# Altium integrated library Infineon_Power_Supply_Voltage_Regulator.IntLib: 346 symbols (part 4 of 16)
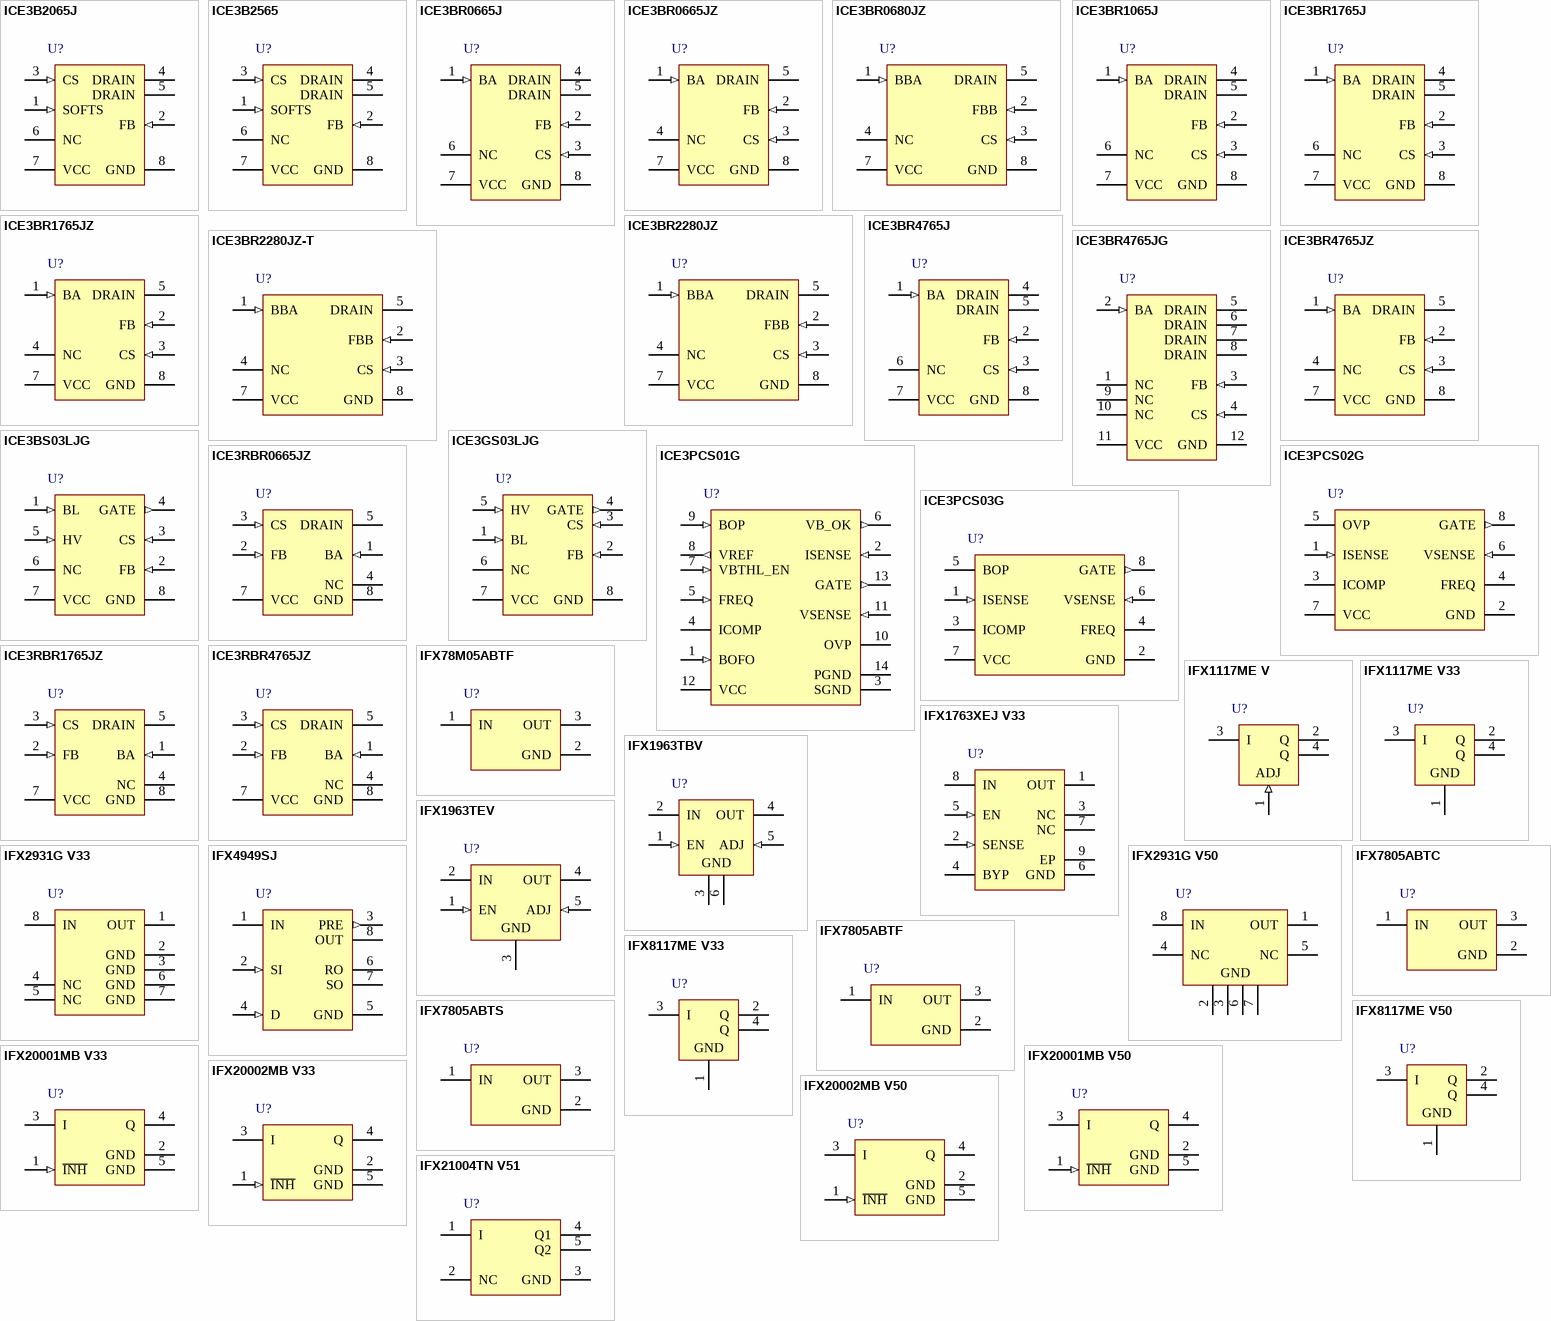
[diagram p12: symbols ICE3B2065J to IFX21004TN V51]

## ICE3BR1765J
designator U?
Off-Line SMPS Current Mode Controller with Integrated 650 V CoolMOS and Startup Cell (Frequency Jitter Mode), 10.5 to 25 V, -25 to 130 degC, PG-DIP-8, Tube, Green; Manufacturer: Infineon; PartNumber: ICE3BR1765J; ESD Protection (max): 2 kV; Frequency ( f ) Range: 65 kHz fixed; Green Product: Lead Free; ICC (typ): 2.7 mA; ID (max): 1.5 A; PIN (max): 31 W; RDS (on) (typ): 1.7 Ohm; RthJA (max): 90 K/W; tf (typ): 30 ns; VCC (max): 25 V; VCC (min): 10.5 V; VDS (max): 650 V; DatasheetVersion: Rev. 2.3; PackageVersion: Rev. 02, 05/2012; PackageReference: PG-DIP-8; PackageDescription: 8-Pin Plastic (Green) Dual In-Line Package, 9.44 x 6.35 mm Body, 2.54 mm Pitch; Supplier 1: Mouser; Supplier Part Number 1: 726-ICE3BR1765J; Supplier 2: Digi-Key; Supplier Part Number 2: ICE3BR1765J-ND; tr (typ): 30 ns; Mounting Technology: Through Hole; ComponentLink1Description: Manufacturer URL; ComponentLink1URL: http://www.infineon.com/; ComponentLink2Description: Datasheet; ComponentLink2URL: http://www.infineon.com/dgdl/Datasheet_ICE3BR1765J_v2_2_4Jul2011.pdf?folderId=db3a304412b407950112b408e8c90004&fileId=db3a30431a5c32f2011a7a6a5b73688b; ComponentLink3Description: Package Specification; ComponentLink3URL: http://www.infineon.com/dgdl/Datasheet_CoolSET-F3_v22_30Aug2011.pdf?folderId=db3a304412b407950112b4182a3d24f8&fileId=db3a304412b407950112b428f6ba3f30
footprint INF-PG-DIP-8_A (DIP, 8-Leads, Body 9.435x7.875mm, Pitch 2.54mm)
pins: 1 BA (in) "extended Blanking & Auto-restart", 2 FB (in) "FeedBack", 3 CS (in) "Current Sense/650V CoolMOS(R) Source", 4 DRAIN (power) "650V CoolMOS(R) Drain", 5 DRAIN (power) "650V CoolMOS(R) Drain", 6 NC "Not connected", 7 VCC (power) "Controller Supply Voltage", 8 GND (power) "Controller GrouND"

## ICE3BR1765JZ
designator U?
Off-Line SMPS Current Mode Controller with Integrated 650 V, 10.5 to 25 V, -25 to 130 degC, PG-DIP-7-1, Tube, Green; Manufacturer: Infineon; PartNumber: ICE3BR1765JZ; ESD Protection (max): 2 kV; Frequency ( f ) Range: 65 kHz; Green: TRUE; Green Product: Lead Free; ICC (typ): 2.7 mA; ID (max): 1.5 A; PIN (max): 29.5 W; RDS (on) (typ): 1.7 Ohm; RthJA (max): 96 K/W; tf (typ): 30 ns; VCC (max): 25 V; VCC (min): 10.5 V; VDS (max): 650 V; DatasheetVersion: Rev. 2.1; PackageVersion: Rev. 02, 07/2011; PackageReference: PG-DIP-7-1; PackageDescription: 7-Pin Plastic (Green) Dual In-Line Package, 9.44 x 6.35 mm Body, 2.54 mm Pitch; Supplier 1: Mouser; Supplier Part Number 1: 726-ICE3BR1765JZ; Supplier 2: Digi-Key; Supplier Part Number 2: ICE3BR1765JZ-ND; tr (typ): 30 ns; Mounting Technology: Through Hole; ComponentLink1Description: Manufacturer URL; ComponentLink1URL: http://www.infineon.com/; ComponentLink2Description: Datasheet; ComponentLink2URL: http://www.infineon.com/dgdl/Datasheet_ICE3BR1765JZ_V21_30Aug2011.pdf?folderId=db3a304412b407950112b4182a3d24f8&fileId=db3a3043243b5f170124ec0e3d1951a3; ComponentLink3Description: Package Specification; ComponentLink3URL: http://www.infineon.com/dgdl/Datasheet_ICE3BR0680JZ_V21a_11Jan2012.pdf?folderId=db3a30431f848401011fcbf221ff04c3&fileId=db3a304329a0f6ee0129e8b5bf735b64
footprint INF-PG-DIP-7-1_A (DIP, 7-Leads, Body 9.44x6.35mm, Pitch 2.54mm)
pins: 1 BA (in) "Brownout, extended Blanking time & Auto-restart enable", 2 FB (in) "Feedback & Burst entry/exit control", 3 CS (in) "Current Sense/ xxxV CoolMOS(R) Source", 4 NC "not connected", 5 DRAIN (power) "xxxV CoolMOS(R) Drain", 7 VCC (power) "Controller Supply Voltage", 8 GND (power) "Controller Ground"

## ICE3BR2280JZ
designator U?
Off-Line SMPS Current Mode Controller with Integrated 800 V CoolMOS and Startup Cell (Brownout & Frequency Jitter), 10.5 to 25 V, -25 to 130 degC, PG-DIP-7-1, Tube, Green; Manufacturer: Infineon; PartNumber: ICE3BR2280JZ; ESD Protection (max): 2 kV; Frequency ( f ) Range: 65 kHz (fixed); Green: TRUE; Green Product: Lead Free; ICC (typ): 3.1 mA; ID (max): 1.5 A; PIN (max): 28 W; RDS (on) (typ): 2.26 Ohm; RthJA (max): 96 K/W; tf (typ): 30 ns; VCC (max): 25 V; VCC (min): 10.5 V; VDS (max): 800 V; DatasheetVersion: Rev. 2.1a; PackageVersion: Rev. 02, 07/2011; PackageReference: PG-DIP-7-1; PackageDescription: 7-Pin Plastic (Green) Dual In-Line Package, 9.44 x 6.35 mm Body, 2.54 mm Pitch; Supplier 1: Mouser; Supplier Part Number 1: 726-ICE3BR2280JZ; Halogen-free: TRUE; tr (typ): 30 ns; Mounting Technology: Through Hole; ComponentLink1Description: Manufacturer URL; ComponentLink1URL: http://www.infineon.com/; ComponentLink2Description: Datasheet; ComponentLink2URL: http://www.infineon.com/dgdl/Datasheet_ICE3BR2280JZ_V21a_11Jan2012.pdf?folderId=db3a30431f848401011fcbf221ff04c3&fileId=db3a304329a0f6ee0129e8b374bc5b5f; ComponentLink3Description: Package Specification; ComponentLink3URL: http://www.infineon.com/dgdl/Datasheet_ICE3BR0680JZ_V21a_11Jan2012.pdf?folderId=db3a30431f848401011fcbf221ff04c3&fileId=db3a304329a0f6ee0129e8b5bf735b64
footprint INF-PG-DIP-7-1_A (DIP, 7-Leads, Body 9.44x6.35mm, Pitch 2.54mm)
pins: 1 BBA (in) "Brownout, extended Blanking time & Auto-restart enable", 2 FBB (in) "Feedback & Burst entry/exit control", 3 CS (in) "Current Sense/800V CoolMOS(R) Source", 4 NC "not connected", 5 DRAIN (power) "800V CoolMOS(R) Drain", 7 VCC (power) "Controller Supply Voltage", 8 GND (power) "Controller Ground"

## ICE3BR2280JZ-T
designator U?
Off-Line SMPS Current Mode Controller, -40 to 130 degC, PG-DIP-7-1, Tube, Green; Manufacturer: Infineon; PartNumber: ICE3BR2280JZ-T; Green: TRUE; ID (max): 1.5 A; PIN (max): 28 W; RDS (on) (typ): 2.26 Ohm; VCC (max): 25 V; VCC (min): 10.5 V; VDS (max): 800 V; DatasheetVersion: Rev. 2.0; PackageVersion: Rev. 02, 07/2011; PackageReference: PG-DIP-7-1; PackageDescription: 7-Pin Plastic (Green) Dual In-Line Package, 9.44 x 6.35 mm Body, 2.54 mm Pitch; Supplier 1: Mouser; Supplier Part Number 1: N/A; Halogen-free: TRUE; Packing: Tube; Mounting Technology: Through Hole; ComponentLink1Description: Manufacturer URL; ComponentLink1URL: http://www.infineon.com/; ComponentLink2Description: Datasheet; ComponentLink2URL: http://www.infineon.com/dgdl/Datasheet_ICE3BR2280JZ-T_V2.0_20Mar2013.pdf?folderId=db3a30433dd36866013dd41eec4723fc&fileId=db3a30433dd42dcf013dd4fe627601e4; ComponentLink3Description: Package Specification; ComponentLink3URL: http://www.infineon.com/dgdl/Datasheet_ICE3BR0680JZ_V21a_11Jan2012.pdf?folderId=db3a30431f848401011fcbf221ff04c3&fileId=db3a304329a0f6ee0129e8b5bf735b64
footprint INF-PG-DIP-7-1_A (DIP, 7-Leads, Body 9.44x6.35mm, Pitch 2.54mm)
pins: 1 BBA (in) "Brownout, extended Blanking time & Auto-restart enable", 2 FBB (in) "Feedback & Burst entry/exit control", 3 CS (in) "Current Sense/800V CoolMOS(R) Source", 4 NC "not connected", 5 DRAIN (power) "800V CoolMOS(R) Drain", 7 VCC (power) "Controller Supply Voltage", 8 GND (power) "Controller Ground"

## ICE3BR4765J
designator U?
Off-Line SMPS Current Mode Controller with Integrated 650 V CoolMOS and Startup Cell (Frequency Jitter Mode), 10.5 to 25 V, -25 to 130 degC, PG-DIP-8, Green; Manufacturer: Infineon; PartNumber: ICE3BR4765J; ESD Protection (max): 2 kV; Frequency ( f ) Range: 65 kHz fixed; Green: TRUE; Green Product: Lead Free; ICC (typ): 2.5 mA; ID (max): 0.5 A; PIN (max): 18 W; RDS (on) (typ): 4.7 Ohm; RthJA (max): 90 K/W; tf (typ): 30 ns; VCC (max): 25 V; VCC (min): 10.5 V; VDS (max): 650 V; DatasheetVersion: Rev. 2.5; PackageVersion: Rev. 02, 05/2012; PackageReference: PG-DIP-8; PackageDescription: 8-Pin Plastic (Green) Dual In-Line Package, 9.44 x 6.35 mm Body, 2.54 mm Pitch; Supplier 1: Mouser; Supplier Part Number 1: 726-ICE3BR4765J; Supplier 2: Digi-Key; Supplier Part Number 2: ICE3BR4765J-ND; tr (typ): 30 ns; Mounting Technology: Through Hole; ComponentLink1Description: Manufacturer URL; ComponentLink1URL: http://www.infineon.com/; ComponentLink2Description: Datasheet; ComponentLink2URL: http://www.infineon.com/dgdl/Datasheet_ICE3BR4765J_v2_4_4Jul2011.pdf?folderId=db3a3043156fd5730115da1adffb1528&fileId=db3a3043156fd5730115da40851e152a; ComponentLink3Description: Package Specification; ComponentLink3URL: http://www.infineon.com/dgdl/Datasheet_CoolSET-F3_v22_30Aug2011.pdf?folderId=db3a304412b407950112b4182a3d24f8&fileId=db3a304412b407950112b428f6ba3f30
footprint INF-PG-DIP-8_A (DIP, 8-Leads, Body 9.435x7.875mm, Pitch 2.54mm)
pins: 1 BA (in) "extended Blanking & Auto-restart", 2 FB (in) "FeedBack", 3 CS (in) "Current Sense/650V CoolMOS(R) Source", 4 DRAIN (power) "650V CoolMOS(R) Drain", 5 DRAIN (power) "650V CoolMOS(R) Drain", 6 NC "Not connected", 7 VCC (power) "Controller Supply Voltage", 8 GND (power) "Controller GrouND"

## ICE3BR4765JG
designator U?
Off-Line SMPS Current Mode Controller with Integrated 650 V CoolMOS and Startup Cell (Frequency Jitter Mode), 10.5 to 25 V, -25 to 130 degC, PG-DSO-16/12, Green; Manufacturer: Infineon; PartNumber: ICE3BR4765JG; ESD Protection (max): 2 kV; Frequency ( f ) Range: 65 khZ fixed; Green: TRUE; Green Product: Lead Free; ICC (typ): 2.5 mA; ID (max): 0.5 A; PIN (max): 16.5 W; RDS (on) (typ): 4.7 Ohm; RthJA (max): 110 K/W; tf (typ): 30 ns; VCC (max): 25 V; VCC (min): 10.5 V; VDS (max): 650 V; DatasheetVersion: Rev. 2.0; PackageReference: PG-DSO-16_12; PackageDescription: 16-Pin Plastic (Green) Dual Small Outline Package, 9.9 x 3.9 mm Body, 1.27 mm Pitch; Supplier 1: Mouser; Supplier Part Number 1: 726-ICE3BR4765JG; tr (typ): 30 ns; Mounting Technology: Surface Mount; ComponentLink1Description: Manufacturer URL; ComponentLink1URL: http://www.infineon.com/; ComponentLink2Description: Datasheet; ComponentLink2URL: http://www.infineon.com/dgdl/Datasheet_ICE3BR4765JG_v20_18Feb10.pdf?folderId=db3a304412b407950112b4182a0e24f7&fileId=db3a304327b897500127cc8423b820f0; ComponentLink3Description: Package Specification; ComponentLink3URL: http://www.infineon.com/dgdl/Datasheet_ICE2QR0665G_20110704_R20.pdf?folderId=db3a304412b407950112b408e8c90004&fileId=db3a304330f686060130fd2a8e477ecb
footprint INF-PG-DSO-16_12_N (SOP, 16-Leads, Body 9.9x3.9mm, Pitch 1.27mm, IPC Medium Density)
footprint INF-PG-DSO-16_12_L (SOP, 16-Leads, Body 9.9x3.9mm, Pitch 1.27mm, IPC High Density)
footprint INF-PG-DSO-16_12_M (SOP, 16-Leads, Body 9.9x3.9mm, Pitch 1.27mm, IPC Low Density)
pins: 1 NC "Not Connected", 2 BA (in) "extended Blanking & Auto-restart", 3 FB (in) "Feedback", 4 CS (in) "Current Sense/650V Depl. CoolMOS(R) Source", 5 DRAIN (power) "650V Depl. CoolMOS(R) Drain", 6 DRAIN (power) "650V Depl. CoolMOS(R) Drain", 7 DRAIN (power) "650V Depl. CoolMOS(R) Drain", 8 DRAIN (power) "650V Depl. CoolMOS(R) Drain", 9 NC "Not Connected", 10 NC "Not Connected", 11 VCC (power) "Controller Supply Voltage", 12 GND (power) "Controller Ground"

## ICE3BR4765JZ
designator U?
Off-Line SMPS Current Mode Controller with Integrated 650 V CoolMOS and Startup Cell, 10.5 to 25 V, -25 to 130 degC, PG-DIP-7-1, Tube, Green; Manufacturer: Infineon; PartNumber: ICE3BR4765JZ; ESD Protection (max): 2 kV; Frequency ( f ) Range: 65 kHz fixed; Green: TRUE; Green Product: Lead Free; ICC (typ): 2.5 mA; ID (max): 0.5 A; PIN (max): 18 W; RDS (on) (typ): 4.7 Ohm; RthJA (max): 96 K/W; tf (typ): 30 ns; VCC (max): 25 V; VCC (min): 10.5 V; VDS (max): 650 V; DatasheetVersion: Rev. 2.1; PackageVersion: Rev. 02, 07/2011; PackageReference: PG-DIP-7-1; PackageDescription: 7-Pin Plastic (Green) Dual In-Line Package, 9.44 x 6.35 mm Body, 2.54 mm Pitch; Supplier 1: Mouser; Supplier Part Number 1: 726-ICE3BR4765JZ; Halogen-free: TRUE; tr (typ): 30 ns; Mounting Technology: Through Hole; ComponentLink1Description: Manufacturer URL; ComponentLink1URL: http://www.infineon.com/; ComponentLink2Description: Datasheet; ComponentLink2URL: http://www.infineon.com/dgdl/Datasheet_ICE3BR4765JZ_V21_30Aug2011.pdf?folderId=db3a30431f848401011fcbf221ff04c3&fileId=db3a3043294a35580129586fb3647c30; ComponentLink3Description: Package Specification; ComponentLink3URL: http://www.infineon.com/dgdl/Datasheet_ICE3BR0680JZ_V21a_11Jan2012.pdf?folderId=db3a30431f848401011fcbf221ff04c3&fileId=db3a304329a0f6ee0129e8b5bf735b64
footprint INF-PG-DIP-7-1_A (DIP, 7-Leads, Body 9.44x6.35mm, Pitch 2.54mm)
pins: 1 BA (in) "Brownout, extended Blanking time & Auto-restart enable", 2 FB (in) "Feedback & Burst entry/exit control", 3 CS (in) "Current Sense/ xxxV CoolMOS(R) Source", 4 NC "not connected", 5 DRAIN (power) "xxxV CoolMOS(R) Drain", 7 VCC (power) "Controller Supply Voltage", 8 GND (power) "Controller Ground"

## ICE3BS03LJG
designator U?
Off-Line SMPS Current Mode Controller, -25 to 130 degC, PG-DSO-8; Manufacturer: Infineon; PartNumber: ICE3BS03LJG; Green: FALSE; ICC (max): 2.5 mA; Output: MOSFET Gate Driver; VCC (max): 26 V; VCC (min): 10.5 V; DatasheetVersion: Rev. 2.0; PackageReference: PG-DSO-8_B; PackageDescription: 8-Pin Plastic (Green) Dual Small Outline Package, 4.91 x 3.96 mm Body, 1.27 mm Pitch; Supplier 1: Mouser; Supplier Part Number 1: 726-ICE3BS03LJG; Supplier 2: Digi-Key; Supplier Part Number 2: ICE3BS03LJG-ND; Halogen-free: FALSE; Mounting Technology: Surface Mount; ComponentLink1Description: Manufacturer URL; ComponentLink1URL: http://www.infineon.com/; ComponentLink2Description: Datasheet; ComponentLink2URL: http://www.infineon.com/dgdl/Datasheet_ICE3BS03LJG_6Dec07-V2_0+.pdf?folderId=db3a3043156fd5730115da1adffb1528&fileId=db3a30431689f4420116b2b751ff05b0; ComponentLink3Description: Package Specification; ComponentLink3URL: http://www.infineon.com/dgdl/Datasheet_ICE1HS01G_v2.0_20090824.pdf?folderId=db3a3043156fd5730115da1adffb1528&fileId=db3a304327b8975001281ab6d8201a99
footprint INF-PG-DSO-8_B_N (SOP, 8-Leads, Body 4.91x3.96mm, Pitch 1.27mm, IPC Medium Density)
footprint INF-PG-DSO-8_B_L (SOP, 8-Leads, Body 4.91x3.96mm, Pitch 1.27mm, IPC High Density)
footprint INF-PG-DSO-8_B_M (SOP, 8-Leads, Body 4.91x3.96mm, Pitch 1.27mm, IPC Low Density)
pins: 1 BL (in) "extended Blanking and Latch off enable", 2 FB (in) "Feedback", 3 CS (in) "Current Sense", 4 GATE (out) "Gate driver output", 5 HV (in) "High Voltage input", 6 NC "Not Connected", 7 VCC (power) "Controller Supply Voltage", 8 GND (power) "Controller Ground"

## ICE3GS03LJG
designator U?
Standalone Power Factor Correction (PFC) Controller in Continuous Conduction Mode (CCM), 10.5 to 25 V, -25 to 130 degC, PG-DSO-8, Reel, Green; Manufacturer: Infineon; PartNumber: ICE3GS03LJG; Frequency ( f ) Range: 130KHz (fixed); Green: TRUE; Group: DSO-8; ICC (max): 2.5 mA; IGATE(max): 0.39 A; IGATE(min): -0.17 A; Iq (typ): 150 uA; Output: MOSFET Gate Driver; VCC (max): 25 V; VCC (min): 10.5 V; DatasheetVersion: Rev. 1.2; PackageVersion: Rev. 02, 01/2008; PackageReference: PG-DSO-8_A; PackageDescription: 8-Pin Plastic (Green) Dual Small Outline Package, 4.9 x 3.9 mm Body, 1.27 mm Pitch; Supplier 1: Mouser; Supplier Part Number 1: 726-ICE3GS03LJG; Halogen-free: available; Mounting Technology: Surface Mount; ComponentLink1Description: Manufacturer URL; ComponentLink1URL: http://www.infineon.com/; ComponentLink2Description: Datasheet; ComponentLink2URL: http://www.infineon.com/dgdl/ProductDatasheetICE2PCS05+22Mar2010.pdf?folderId=db3a304412b407950112b4182a3d24f8&fileId=db3a30431c69a49d011cdfb46a834373; ComponentLink3Description: Package Specification; ComponentLink3URL: http://www.infineon.com/dgdl/ProductDatasheetICE2PCS05+22Mar2010.pdf?folderId=db3a304412b407950112b4182a3d24f8&fileId=db3a30431c69a49d011cdfb46a834373
footprint INF-PG-DSO-8_A_N (SOP, 8-Leads, Body 4.9x3.9mm, Pitch 1.27mm, IPC Medium Density, IPC Medium Density)
footprint INF-PG-DSO-8_A_L (SOP, 8-Leads, Body 4.9x3.9mm, Pitch 1.27mm, IPC Medium Density, IPC High Density)
footprint INF-PG-DSO-8_A_M (SOP, 8-Leads, Body 4.9x3.9mm, Pitch 1.27mm, IPC Medium Density, IPC Low Density)
pins: 1 BL (in) "extended Blanking and Latch off enable", 2 FB (in) "Feedback", 3 CS (in) "Current Sense", 4 GATE (out) "Gate driver output", 5 HV (in) "High Voltage input", 6 NC "Not Connected", 7 VCC (power) "Controller Supply Voltage", 8 GND (power) "Controller Ground"

## ICE3PCS01G
designator U?
Standalone Power Factor Correction (PFC) Controller in Continuous Conduction Mode (CCM), 11 to 25 V, -25 to 125 degC, PG-DSO-14-3, Reel, Green; Part Number: ICE3PCS01G; Manufacturer: Infineon; Frequency ( f ) Range: 21kHz - 250kHz; Green: TRUE; ICC (max): 9 mA; Iq (typ): 380 uA; Output: MOSFET Gate Driver; VCC (max): 25 V; VCC (min): 11 V; DatasheetVersion: Rev. 2.0; PackageVersion: May-10; PackageReference: PG-DSO-14-3; PackageDescription: 14-Pin Plastic (Green) Dual Small Outline Package, 8.65 x 3.9 mm Body, 1.27 mm Pitch; Supplier 1: Mouser; Supplier Part Number 1: 726-ICE3PCS01G; Halogen-free: TRUE; Packing: Reel; Mounting Technology: Surface Mount; PartNumber: ICE3PCS01G; ComponentLink1Description: Manufacturer URL; ComponentLink1URL: http://www.infineon.com/; ComponentLink2Description: Datasheet; ComponentLink2URL: http://www.infineon.com/dgdl/ProductDatasheetICE3PCS01_v2+0_2col.pdf?folderId=db3a304412b407950112b408e8c90004&fileId=db3a304329a0f6ee0129a67ae8c02b46; ComponentLink3Description: Package Specification; ComponentLink3URL: http://www.infineon.com/dgdl/ProductDatasheetICE3PCS01_v2+0_2col.pdf?folderId=db3a304412b407950112b408e8c90004&fileId=db3a304329a0f6ee0129a67ae8c02b46
footprint INF-PG-DSO-14-3_N (SOP, 14-Leads, Body 8.65x3.9mm, Pitch 1.27mm, IPC Medium Density)
footprint INF-PG-DSO-14-3_L (SOP, 14-Leads, Body 8.65x3.9mm, Pitch 1.27mm, IPC High Density)
footprint INF-PG-DSO-14-3_M (SOP, 14-Leads, Body 8.65x3.9mm, Pitch 1.27mm, IPC Low Density)
pins: 1 BOFO (in) "Boost Follower Setting", 2 ISENSE (in) "Current Sense Input", 3 SGND (power) "Signal Ground", 4 ICOMP "Current Loop Compensation", 5 FREQ (in) "Switching Frequency Setting", 6 VB_OK (out) "Bulk Voltage OK signal", 7 VBTHL_EN (in) "PFC Enable Function", 8 VREF (out) "Voltage Reference", 9 BOP (in) "Brownout Protection", 10 OVP "Over Voltage Protection", 11 VSENSE (in) "Bulk Voltage Sense", 12 VCC (power) "IC Supply Voltage", 13 GATE (out) "Gate Drive", 14 PGND (power) "Power Ground"

## ICE3PCS02G
designator U?
Standalone Power Factor Correction (PFC) Controller in Continuous Conduction Mode (CCM), 11 to 25 V, -25 to 125 degC, PG-DSO-8-3, Reel, Green; Part Number: ICE3PCS02G; Manufacturer: Infineon; Frequency ( f ) Range: 21kHz - 250 kHz; Green: TRUE; ICC (max): 8.5 mA; Iq (typ): 380 uA; Output: MOSFET Gate Driver; VCC (max): 25 V; VCC (min): 11 V; DatasheetVersion: Rev. 2.0; PackageReference: PG-DSO-8-3; PackageDescription: 8-Pin Plastic (Green) Dual Small Outline Package, 4.9 x 3.9 mm Body, 1.27 mm Pitch; Supplier 1: Mouser; Supplier Part Number 1: 726-ICE3PCS02G; Halogen-free: TRUE; Packing: Reel; Mounting Technology: Surface Mount; PartNumber: ICE3PCS02G; ComponentLink1Description: Manufacturer URL; ComponentLink1URL: http://www.infineon.com/; ComponentLink2Description: Datasheet; ComponentLink2URL: http://www.infineon.com/dgdl/2Col+ICE3PCS02_v2+0.pdf?folderId=db3a304412b407950112b408e8c90004&fileId=db3a304329a0f6ee0129a67fab472b4b; ComponentLink3Description: Package Specification; ComponentLink3URL: http://www.infineon.com/cms/packages/SMD_-_Surface_Mounted_Devices/P-PG-DSO/P-PG-DSO-08-03x_-6x_-7x_-8x_-10x_-13x_-15x_-18x_-19x_-20x_-23.html?__locale=en
footprint INF-PG-DSO-8-3_N (SOP, 8-Leads, Body 4.9x3.9mm, Pitch 1.27mm, IPC Medium Density)
footprint INF-PG-DSO-8-3_L (SOP, 8-Leads, Body 4.9x3.9mm, Pitch 1.27mm, IPC High Density)
footprint INF-PG-DSO-8-3_M (SOP, 8-Leads, Body 4.9x3.9mm, Pitch 1.27mm, IPC Low Density)
pins: 1 ISENSE (in) "Current Sense Input", 2 GND (power) "IC Ground", 3 ICOMP "Current Loop Compensation", 4 FREQ "Switching Frequency Setting", 5 OVP "Over Voltage Protection", 6 VSENSE (in) "Bulk Voltage Sense", 7 VCC (power) "IC Supply Voltage", 8 GATE (out) "Gate Drive"

## ICE3PCS03G
designator U?
Standalone Power Factor Correction (PFC) Controller in Continuous Conduction Mode (CCM), 11 to 25 V, -25 to 125 degC, PG-DSO-8-3, Reel, Green; Part Number: ICE3PCS03G; Manufacturer: Infineon; Frequency ( f ) Range: 21kHz - 250 kHz; Green: TRUE; ICC (max): 8.5 mA; Iq (typ): 380 uA; Output: MOSFET Gate Driver; VCC (max): 25 V; VCC (min): 11 V; DatasheetVersion: Rev. 2.0; PackageReference: PG-DSO-8-3; PackageDescription: 8-Pin Plastic (Green) Dual Small Outline Package, 4.9 x 3.9 mm Body, 1.27 mm Pitch; Supplier 1: Mouser; Supplier Part Number 1: 726-ICE3PCS03G; Halogen-free: TRUE; Packing: Reel; Mounting Technology: Surface Mount; PartNumber: ICE3PCS03G; ComponentLink1Description: Manufacturer URL; ComponentLink1URL: http://www.infineon.com/; ComponentLink2Description: Datasheet; ComponentLink2URL: http://www.infineon.com/dgdl/2Col+ICE3PCS03_v2+0.pdf?folderId=db3a304412b407950112b408e8c90004&fileId=db3a304329a0f6ee0129a683c9c92b50; ComponentLink3Description: Package Specification; ComponentLink3URL: http://www.infineon.com/cms/packages/SMD_-_Surface_Mounted_Devices/P-PG-DSO/P-PG-DSO-08-03x_-6x_-7x_-8x_-10x_-13x_-15x_-18x_-19x_-20x_-23.html?__locale=en
footprint INF-PG-DSO-8-3_N (SOP, 8-Leads, Body 4.9x3.9mm, Pitch 1.27mm, IPC Medium Density)
footprint INF-PG-DSO-8-3_L (SOP, 8-Leads, Body 4.9x3.9mm, Pitch 1.27mm, IPC High Density)
footprint INF-PG-DSO-8-3_M (SOP, 8-Leads, Body 4.9x3.9mm, Pitch 1.27mm, IPC Low Density)
pins: 1 ISENSE (in) "Current Sense Input", 2 GND (power) "IC Ground", 3 ICOMP "Current Loop Compensation", 4 FREQ "Switching Frequency Setting", 5 BOP "Brownout Protection", 6 VSENSE (in) "Bulk Voltage Sense", 7 VCC (power) "IC Supply Voltage", 8 GATE (out) "Gate Drive"

## ICE3RBR0665JZ
designator U?
Off-Line SMPS Current Mode Controller with Integrated 650 V CoolMOS(TM) and Startup Cell (Frequency Jitter Mode), 10.5 to 25 V, -40 to 130 degC, PG-DIP-7, Tube, Green; Manufacturer: Infineon; PartNumber: ICE3RBR0665JZ; ESD Protection (max): 2 kV; Frequency ( f ) Range: 65 kHz Fixed; Green: TRUE; Green Product: Lead Free; ICC (typ): 3.8 mA; PIN (max): 47 W; RthJA (max): 96 K/W; tf (typ): 30 ns; VCC (max): 25 V; VCC (min): 10.5 V; VDS (max): 650 V; DatasheetVersion: Rev. 2.0; PackageVersion: Rev. 02, 07/2011; PackageReference: PG-DIP-7-1; PackageDescription: 7-Pin Plastic (Green) Dual In-Line Package, 9.44 x 6.35 mm Body, 2.54 mm Pitch; Supplier 1: Mouser; Supplier Part Number 1: N/A; Halogen-free: TRUE; Mounting: THT; Packing: Tube; Tolerance: TRUE; tr (typ): 30 ns; Mounting Technology: Through Hole; ComponentLink1Description: Manufacturer URL; ComponentLink1URL: http://www.infineon.com/; ComponentLink2Description: Datasheet; ComponentLink2URL: http://www.infineon.com/dgdl?folderId=db3a30433dd36866013dd41eec4723fc&fileId=db3a30433f764301013f992c8d935cc0; ComponentLink3Description: Package Specification; ComponentLink3URL: http://www.infineon.com/dgdl/Datasheet_ICE2QR4765Z_V21_20110830.pdf?folderId=db3a304412b407950112b408e8c90004&fileId=db3a304330046413013048a5435f51d2
footprint INF-PG-DIP-7-1_A (DIP, 7-Leads, Body 9.44x6.35mm, Pitch 2.54mm)
pins: 1 BA (in) "extended Blanking & Auto-restart enable", 2 FB (in) "FeedBack", 3 CS (in) "Current Sense/650V CoolMOS(R) Source", 4 NC "not connected", 5 DRAIN (power) "650V CoolMOS (R) Drain", 7 VCC (power) "Controller Supply Voltage", 8 GND (power) "Controller GrouND"

## ICE3RBR1765JZ
designator U?
Off-Line SMPS Current Mode Controller with Integrated 650 V CoolMOS(TM) and Startup Cell (Frequency Jitter Mode), 10.5 to 25 V, -40 to 130 degC, PG-DIP-7, Tube, Green; Manufacturer: Infineon; PartNumber: ICE3RBR1765JZ; ESD Protection (max): 2 kV; Frequency ( f ) Range: 65 kHz Fixed; Green: TRUE; Green Product: Lead Free; ICC (typ): 2.7 mA; PIN (max): 29.5 W; RthJA (max): 96 K/W; tf (typ): 30 ns; VCC (max): 25 V; VCC (min): 10.5 V; VDS (max): 650 V; DatasheetVersion: Rev. 2.0; PackageVersion: Rev. 02, 07/2011; PackageReference: PG-DIP-7-1; PackageDescription: 7-Pin Plastic (Green) Dual In-Line Package, 9.44 x 6.35 mm Body, 2.54 mm Pitch; Supplier 1: Mouser; Supplier Part Number 1: N/A; Halogen-free: TRUE; Mounting: THT; Packing: Tube; Tolerance: TRUE; tr (typ): 30 ns; Mounting Technology: Through Hole; ComponentLink1Description: Manufacturer URL; ComponentLink1URL: http://www.infineon.com/; ComponentLink2Description: Datasheet; ComponentLink2URL: http://www.infineon.com/dgdl?folderId=db3a30433dd36866013dd41eec4723fc&fileId=db3a30433f764301013f993270cf5ccb; ComponentLink3Description: Package Specification; ComponentLink3URL: http://www.infineon.com/dgdl/Datasheet_ICE2QR4765Z_V21_20110830.pdf?folderId=db3a304412b407950112b408e8c90004&fileId=db3a304330046413013048a5435f51d2
footprint INF-PG-DIP-7-1_A (DIP, 7-Leads, Body 9.44x6.35mm, Pitch 2.54mm)
pins: 1 BA (in) "extended Blanking & Auto-restart enable", 2 FB (in) "FeedBack", 3 CS (in) "Current Sense/650V CoolMOS(R) Source", 4 NC "not connected", 5 DRAIN (power) "650V CoolMOS (R) Drain", 7 VCC (power) "Controller Supply Voltage", 8 GND (power) "Controller GrouND"

## ICE3RBR4765JZ
designator U?
Off-Line SMPS Current Mode Controller with Integrated 650 V CoolMOS(TM) and Startup Cell (Frequency Jitter Mode), 10.5 to 25 V, -40 to 130 degC, PG-DIP-7, Tube, Green; Manufacturer: Infineon; PartNumber: ICE3RBR4765JZ; ESD Protection (max): 2 kV; Frequency ( f ) Range: 65 kHz Fixed; Green: TRUE; Green Product: Lead Free; ICC (typ): 2.5 mA; PIN (max): 18 W; RthJA (max): 96 K/W; tf (typ): 30 ns; VCC (max): 25 V; VCC (min): 10.5 V; VDS (max): 650 V; DatasheetVersion: Rev. 2.0; PackageVersion: Rev. 02, 07/2011; PackageReference: PG-DIP-7-1; PackageDescription: 7-Pin Plastic (Green) Dual In-Line Package, 9.44 x 6.35 mm Body, 2.54 mm Pitch; Supplier 1: Mouser; Supplier Part Number 1: N/A; Halogen-free: TRUE; Mounting: THT; Packing: Tube; Tolerance: TRUE; tr (typ): 30 ns; Mounting Technology: Through Hole; ComponentLink1Description: Manufacturer URL; ComponentLink1URL: http://www.infineon.com/; ComponentLink2Description: Datasheet; ComponentLink2URL: http://www.infineon.com/dgdl?folderId=db3a30433dd36866013dd41eec4723fc&fileId=db3a30433f764301013f9935b0655cd5; ComponentLink3Description: Package Specification; ComponentLink3URL: http://www.infineon.com/dgdl/Datasheet_ICE2QR4765Z_V21_20110830.pdf?folderId=db3a304412b407950112b408e8c90004&fileId=db3a304330046413013048a5435f51d2
footprint INF-PG-DIP-7-1_A (DIP, 7-Leads, Body 9.44x6.35mm, Pitch 2.54mm)
pins: 1 BA (in) "extended Blanking & Auto-restart enable", 2 FB (in) "FeedBack", 3 CS (in) "Current Sense/650V CoolMOS(R) Source", 4 NC "not connected", 5 DRAIN (power) "650V CoolMOS (R) Drain", 7 VCC (power) "Controller Supply Voltage", 8 GND (power) "Controller GrouND"

## IFX78M05ABTF
designator U?
Three Terminal 500 mA Positive Voltage Regulator, 5 Vout, -40 to 125 degC, PG-TO252-3, Reel, Green; Manufacturer: Infineon; PartNumber: IFX78M05ABTF; Automotive Qualified: FALSE; Dropout Voltage: 2000mV; Green: TRUE; Max. Output Current: 500 mA; Operating Range: 7.5 to 35 V; Output Voltage: 5 V; Regulator Type: Linear; Typical Quiescent Current: 3500 uA; DatasheetVersion: Rev. 1.0; PackageVersion: Jan-10; PackageReference: PG-TO252-3-1; PackageDescription: 3-Pin Plastic (Green) Transistor Single Outline Package, 6.5 x 6.12 mm Body, 2.28 mm Pitch; Supplier 1: Mouser; Supplier Part Number 1: N/A; Halogen-free: TRUE; Packing: Reel; Reset: FALSE; Mounting Technology: Surface Mount; ComponentLink1Description: Manufacturer URL; ComponentLink1URL: http://www.infineon.com/; ComponentLink2Description: Datasheet; ComponentLink2URL: http://www.infineon.com/dgdl/IFX78M05-Data-sheet-10.pdf?folderId=db3a30431ff988150120802bce1d257a&fileId=db3a3043405f2978014072d3da712268; ComponentLink3Description: Package Specification; ComponentLink3URL: http://www.infineon.com/cms/packages/SMD_-_Surface_Mounted_Devices/P-PG-TO252/P-PG-TO252-03-001.html?__locale=en
footprint INF-PG-TO252-3-1_N (DPAK, 3-Leads, Body 6.525x6.12mm, Pitch 2.28mm, IPC Medium Density)
footprint INF-PG-TO252-3-1_L (DPAK, 3-Leads, Body 6.525x6.12mm, Pitch 2.28mm, IPC High Density)
footprint INF-PG-TO252-3-1_M (DPAK, 3-Leads, Body 6.525x6.12mm, Pitch 2.28mm, IPC Low Density)
pins: 1 IN (power) "Input The input pin is where the input power is supplied to the device. A capacitor is required from input to ground. Please refer to the application information section for more details", 2 GND (power), 3 OUT (power) "Output The output voltage supplies power to the load. For stability a minimum output capacitor of 100nF is required from output to ground. Please refer to the application information section for more details"

## IFX1117ME V
designator U?
Voltage Regulator, 4.55 to 15 V Operating, 1000 mA, -40 to 125 degC, PG-SOT223 (SC-73), Reel, Green; Manufacturer: Infineon; PartNumber: IFX1117ME V; Accuracy: 2.0 %; Automotive Qualified: FALSE; Dropout Voltage: 1200 mV; Green: TRUE; Max Number Reflow: 3; Max Peak Reflow Temp: 260 degC; Max. Output Current: 1000 mA; Output Voltage: adj.; Regulator Type: Linear->single output; Typical Quiescent Current: 5000 uA; DatasheetVersion: Rev. 1.0; PackageVersion: Apr-08; PackageReference: PG-SOT223 (SC-73); PackageDescription: 4-Pin Small Outline Transistor Package, 6.5 x 3.5 mm Body, 2.3 mm Pitch; Supplier 1: Mouser; Supplier Part Number 1: 726-IFX1117MEV; Supplier 2: Digi-Key; Supplier Part Number 2: IFX1117ME VINTR-ND; Supplier 3: Digi-Key; Supplier Part Number 3: IFX1117ME VINCT-ND; Supplier 4: Digi-Key; Supplier Part Number 4: IFX1117ME VINDKR-ND; MSL: 1; Packing: Reel; Reset: FALSE; Status Output: FALSE; Mounting Technology: Surface Mount; ComponentLink1Description: Manufacturer URL; ComponentLink1URL: http://www.infineon.com/; ComponentLink2Description: Datasheet; ComponentLink2URL: http://www.infineon.com/dgdl/IFX1117ME+V33.pdf?folderId=db3a304318f3fe290118f5a433570040&fileId=db3a30432e779412012e9097d1611987; ComponentLink3Description: Package Specification; ComponentLink3URL: http://www.infineon.com/dgdl/SOT223-Package_Overview.pdf?folderId=db3a30431936bc4b0119530470b03c3d&fileId=db3a30431936bc4b0119531d40b93c5c
footprint INF-PG-SOT223_SC-73_N (SOT223, 4-Leads, Body 6.5x3.5mm, Pitch 2.3mm, IPC Medium Density)
footprint INF-PG-SOT223_SC-73_L (SOT223, 4-Leads, Body 6.5x3.5mm, Pitch 2.3mm, IPC High Density)
footprint INF-PG-SOT223_SC-73_M (SOT223, 4-Leads, Body 6.5x3.5mm, Pitch 2.3mm, IPC Low Density)
pins: 1 ADJ (in), 2 Q (power) "Output", 3 I (power) "Input", 4 Q (power) "Output"

## IFX1117ME V33
designator U?
Voltage Regulator, 4.55 to 15 V Operating, 1000 mA, -40 to 125 degC, PG-SOT223 (SC-73), Reel, Green; Manufacturer: Infineon; PartNumber: IFX1117ME V33; Accuracy: 2.0 %; Automotive Qualified: FALSE; Dropout Voltage: 1200 mV; Green: TRUE; Max Number Reflow: 3; Max Peak Reflow Temp: 260 degC; Max. Output Current: 1000 mA; Output Voltage: 3.3 V; Regulator Type: Linear->single output; Typical Quiescent Current: 5000 uA; DatasheetVersion: Rev. 1.0; PackageVersion: Apr-08; PackageReference: PG-SOT223 (SC-73); PackageDescription: 4-Pin Small Outline Transistor Package, 6.5 x 3.5 mm Body, 2.3 mm Pitch; Supplier 1: Mouser; Supplier Part Number 1: 726-IFX1117MEV33; Supplier 2: Digi-Key; Supplier Part Number 2: IFX1117ME V33TR-ND; Supplier 3: Digi-Key; Supplier Part Number 3: IFX1117ME V33CT-ND; Supplier 4: Digi-Key; Supplier Part Number 4: IFX1117ME V33DKR-ND; MSL: 1; Packing: Reel; Reset: FALSE; Status Output: FALSE; Mounting Technology: Surface Mount; ComponentLink1Description: Manufacturer URL; ComponentLink1URL: http://www.infineon.com/; ComponentLink2Description: Datasheet; ComponentLink2URL: http://www.infineon.com/dgdl/IFX1117ME+V33.pdf?folderId=db3a304318f3fe290118f5a433570040&fileId=db3a30432e779412012e9097d1611987; ComponentLink3Description: Package Specification; ComponentLink3URL: http://www.infineon.com/dgdl/SOT223-Package_Overview.pdf?folderId=db3a30431936bc4b0119530470b03c3d&fileId=db3a30431936bc4b0119531d40b93c5c
footprint INF-PG-SOT223_SC-73_N (SOT223, 4-Leads, Body 6.5x3.5mm, Pitch 2.3mm, IPC Medium Density)
footprint INF-PG-SOT223_SC-73_L (SOT223, 4-Leads, Body 6.5x3.5mm, Pitch 2.3mm, IPC High Density)
footprint INF-PG-SOT223_SC-73_M (SOT223, 4-Leads, Body 6.5x3.5mm, Pitch 2.3mm, IPC Low Density)
pins: 1 GND (power), 2 Q (power) "Output", 3 I (power) "Input", 4 Q (power) "Output"

## IFX1763XEJ V33
designator U?
Wide Input Range Low Noise 500 mA LDO, 3.3 Vout, -40 to 125 degC, PG-DSO-8, Reel, Green; Manufacturer: Infineon; PartNumber: IFX1763XEJ V33; Dropout Voltage: 320mV; Green: TRUE; Max. Output Current: 500mA; Operating Range: 1.8 to 20 V; Output Voltage: 3.3 V; Regulator Type: Linear; Reset: FALSE; Typical Quiescent Current: 30uA; DatasheetVersion: Rev. 1.0; PackageVersion: V01, 06/2012; PackageReference: PG-DSO-8-27; PackageDescription: 8-Pin Plastic (Green) Dual Small Outline Package, 4.9 x 3.9 mm Body, 1.27 mm Pitch; Halogen-free: TRUE; Packing: Reel; Mounting Technology: Surface Mount; Code_JEDEC: MS-012; ComponentLink1Description: Manufacturer URL; ComponentLink1URL: http://www.infineon.com/; ComponentLink2Description: Datasheet; ComponentLink2URL: http://www.infineon.com/dgdl/IFX1763-Data-Sheet-10-Infineon.pdf?folderId=db3a30431ff988150120802bce1d257a&fileId=db3a3043442f820901443fbb4de36633; ComponentLink3Description: Package Specification; ComponentLink3URL: http://www.infineon.com/cms/packages/SMD_-_Surface_Mounted_Devices/P-PG-DSO/P-PG-DSO-08-27.html?__locale=en
footprint INF-PG-DSO-8-27_N (SOP, 8-Leads, Body 4.9x3.9mm, Pitch 1.27mm, Thermal Pad 3.2x2.85mm, IPC Medium Density)
footprint INF-PG-DSO-8-27_L (SOP, 8-Leads, Body 4.9x3.9mm, Pitch 1.27mm, Thermal Pad 3.2x2.85mm, IPC High Density)
footprint INF-PG-DSO-8-27_M (SOP, 8-Leads, Body 4.9x3.9mm, Pitch 1.27mm, Thermal Pad 3.2x2.85mm, IPC Low Density)
pins: 1 OUT (power) "Output", 2 SENSE (in) "Output Sense", 3 NC "No Connect", 4 BYP "Bypass", 5 EN (in) "Enable", 6 GND (power) "Ground", 7 NC "No Connect", 8 IN (power) "Input", 9 EP (power) "Exposed Pad"

## IFX1963TBV
designator U?
Low Dropout Linear Voltage Regulator, 2.5 to 20 V Operating, 1500 mA, -40 to 125 degC, PG-TO263-5-1, Reel, Green; Manufacturer: Infineon; PartNumber: IFX1963TBV; Accuracy: 3.0 %; Automotive Qualified: FALSE; Dropout Voltage: 340 mV; Green: TRUE; Max Number Reflow: 3; Max Peak Reflow Temp: 260 degC; Max. Output Current: 1500 mA; Output Voltage: adj.; Regulator Type: single output; Typical Quiescent Current: 1.1 mA; DatasheetVersion: Rev. 1.0; PackageVersion: Sep-08; PackageReference: PG-TO263-5-1; PackageDescription: 5-Pin Plastic (Green) Transistor Single Outline Package, 10 x 9.25 mm Body, 1.7 mm Pitch; Supplier 1: Mouser; Supplier Part Number 1: N/A; Halogen-free: TRUE; MSL: 1; Packing: Reel; Reset: FALSE; Status Output: FALSE; Mounting Technology: Surface Mount; ComponentLink1Description: Manufacturer URL; ComponentLink1URL: http://www.infineon.com/; ComponentLink2Description: Datasheet; ComponentLink2URL: http://www.infineon.com/dgdl/IFX1963-Data-Sheet-10-Infineon.pdf?folderId=db3a30431f848401011fcbf221ff04c3&fileId=db3a30433d68e984013d7da33b3c5e16; ComponentLink3Description: Package Specification; ComponentLink3URL: http://www.infineon.com/dgdl/TLE4675_DS10.pdf?folderId=db3a30431ddc9372011e26863f92474e&fileId=db3a30431ff9881501201fa645654e52&sId=db3a30433d68e984013d8b6677a5267d
footprint INF-PG-TO263-5-1_N (DPAK, 5-Leads, Body 10x9.25mm, Pitch 1.7mm, IPC Medium Density)
footprint INF-PG-TO263-5-1_L (DPAK, 5-Leads, Body 10x9.25mm, Pitch 1.7mm, IPC High Density)
footprint INF-PG-TO263-5-1_M (DPAK, 5-Leads, Body 10x9.25mm, Pitch 1.7mm, IPC Low Density)
pins: 1 EN (in) "Enable;", 2 IN (power) "Input voltage;", 3 GND (power) "Ground", 4 OUT (power) "Output voltage", 5 ADJ (in) "Adjust Input", 6 GND (power) "Ground"

## IFX1963TEV
designator U?
Low Dropout Linear Voltage Regulator, 2.5 to 20 V Operating, 1500 mA, -40 to 125 degC, PG-TO252-5-11, Reel, Green; Manufacturer: Infineon; PartNumber: IFX1963TEV; Accuracy: 3.0 %; Automotive Qualified: FALSE; Dropout Voltage: 340 mV; Green: TRUE; Max Number Reflow: 3; Max Peak Reflow Temp: 260 degC; Max. Output Current: 1500 mA; Output Voltage: adj.; Regulator Type: single output; Typical Quiescent Current: 1.1 mA; DatasheetVersion: Rev. 1.0; PackageVersion: Nov-10; PackageReference: PG-TO252-5-11; PackageDescription: 5-Pin Plastic (Green) Transistor Single Outline Package, 6.5 x 6.12 mm Body, 1.14 mm Pitch; Supplier 1: Mouser; Supplier Part Number 1: N/A; Halogen-free: TRUE; MSL: 1; Packing: Reel; Reset: FALSE; Status Output: FALSE; Mounting Technology: Surface Mount; ComponentLink1Description: Manufacturer URL; ComponentLink1URL: http://www.infineon.com/; ComponentLink2Description: Datasheet; ComponentLink2URL: http://www.infineon.com/dgdl/IFX1963-Data-Sheet-10-Infineon.pdf?folderId=db3a30431f848401011fcbf221ff04c3&fileId=db3a30433d68e984013d7da33b3c5e16; ComponentLink3Description: Package Specification; ComponentLink3URL: http://www.infineon.com/dgdl/TLE7276-Data+Sheet-+v1_11.pdf?folderId=db3a304412b407950112b408e8c90004&fileId=db3a304412b407950112b436c53f66c8&sId=db3a30433db6f09f013dc0e43c0428c1
footprint INF-PG-TO252-5-11_N (DPAK, 5-Leads, Body 6.5x6.12mm, Pitch 1.14mm, IPC Medium Density)
footprint INF-PG-TO252-5-11_L (DPAK, 5-Leads, Body 6.5x6.12mm, Pitch 1.14mm, IPC High Density)
footprint INF-PG-TO252-5-11_M (DPAK, 5-Leads, Body 6.5x6.12mm, Pitch 1.14mm, IPC Low Density)
pins: 1 EN (in) "Enable", 2 IN (power) "Input voltage", 3 GND (power), 4 OUT (power) "Output voltage", 5 ADJ (in) "Adjust Input"

## IFX2931G V33
designator U?
Low Dropout Linear Voltage Regulator, 3.3 Vout, -40 to 125 degC, PG-DSO-8, Reel, Green; Manufacturer: Infineon; PartNumber: IFX2931G V33; Automotive Qualified: FALSE; Dropout Voltage: 300mV; Green: TRUE; Max. Output Current: 100mA; Operating Range: 4.4 to 26 V; Output Voltage: 3.3 V; Typical Quiescent Current: 400uA; DatasheetVersion: Rev. 1.13; PackageVersion: Mar-07; PackageReference: PG-DSO-8-16; PackageDescription: 8-Pin Plastic (Green) Dual Small Outline Package, 4.9 x 3.9 mm Body, 1.27 mm Pitch; Supplier 1: Digi-Key; Supplier Part Number 1: IFX2931G V33INTR-ND; Supplier 2: Digi-Key; Supplier Part Number 2: IFX2931G V33INCT-ND; Supplier 3: Digi-Key; Supplier Part Number 3: IFX2931G V33INDKR-ND; Supplier 4: Mouser; Supplier Part Number 4: 726-IFX2931GV33; Packing: Reel; Regulator Type: Linear; Reset: FALSE; Mounting Technology: Surface Mount; ComponentLink1Description: Manufacturer URL; ComponentLink1URL: http://www.infineon.com/; ComponentLink2Description: Datasheet; ComponentLink2URL: http://www.infineon.com/dgdl/IFX2931-Data-Sheet-113.pdf?folderId=db3a304318f3fe290118f5a433570040&fileId=db3a304320d39d59012114ce2e9245a8; ComponentLink3Description: Package Specification; ComponentLink3URL: http://www.infineon.com/cms/packages/SMD_-_Surface_Mounted_Devices/P-PG-DSO/P-PG-DSO-08-16x_-24x_-25x_-28x_-31x_-33x_-36x_-44x_-49.html?__locale=en
footprint INF-PG-DSO-8-16_N (SOP, 8-Leads, Body 4.9x3.9mm, Pitch 1.27mm, IPC Medium Density)
footprint INF-PG-DSO-8-16_L (SOP, 8-Leads, Body 4.9x3.9mm, Pitch 1.27mm, IPC High Density)
footprint INF-PG-DSO-8-16_M (SOP, 8-Leads, Body 4.9x3.9mm, Pitch 1.27mm, IPC Low Density)
pins: 1 OUT (power) "Output", 2 GND (power) "Ground", 3 GND (power) "Ground", 4 NC "not connected", 5 NC "not connected", 6 GND (power) "Ground", 7 GND (power) "Ground", 8 IN (power) "Input"

## IFX2931G V50
designator U?
Low Dropout Linear Voltage Regulator, 6 to 28 V Operating, 100 mA, -40 to 125 degC, PG-DSO-8-16, Reel, Green; Manufacturer: Infineon; PartNumber: IFX2931G V50; Accuracy: 5.0 %; Automotive Qualified: FALSE; Dropout Voltage: 300 mV; Green: TRUE; Max Number Reflow: 3; Max Peak Reflow Temp: 260 degC; Max. Output Current: 100 mA; Output Voltage: 5 V; Regulator Type: Linear->single output; Typical Quiescent Current: 400 uA; DatasheetVersion: Rev. 1.13; PackageVersion: Mar-07; PackageReference: PG-DSO-8-16; PackageDescription: 8-Pin Plastic (Green) Dual Small Outline Package, 4.9 x 3.9 mm Body, 1.27 mm Pitch; Supplier 1: Mouser; Supplier Part Number 1: 726-IFX2931GV50; Supplier 2: Digi-Key; Supplier Part Number 2: IFX2931G V50INTR-ND; Supplier 3: Digi-Key; Supplier Part Number 3: IFX2931G V50INCT-ND; Supplier 4: Digi-Key; Supplier Part Number 4: IFX2931G V50INDKR-ND; Halogen-free: TRUE; MSL: 3; Packing: Reel; Reset: FALSE; Status Output: FALSE; Mounting Technology: Surface Mount; ComponentLink1Description: Manufacturer URL; ComponentLink1URL: http://www.infineon.com/; ComponentLink2Description: Datasheet; ComponentLink2URL: http://www.infineon.com/dgdl/IFX2931-Data-Sheet-113.pdf?folderId=db3a304318f3fe290118f5a433570040&fileId=db3a304320d39d59012114ce2e9245a8; ComponentLink3Description: Package Specification; ComponentLink3URL: http://www.infineon.com/dgdl/TLE7259-2GE_DS_rev12.pdf?folderId=db3a3043163797a6011666d32a0c0de1&fileId=db3a3043163797a6011666d4dbb80de2&location=en.Products.Automotive_ICs.Automotive_Transceivers.LIN_Transceivers.DATASHEET.TLE7259-2GE_DS_rev12.pdf
footprint INF-PG-DSO-8-16_N (SOP, 8-Leads, Body 4.9x3.9mm, Pitch 1.27mm, IPC Medium Density)
footprint INF-PG-DSO-8-16_L (SOP, 8-Leads, Body 4.9x3.9mm, Pitch 1.27mm, IPC High Density)
footprint INF-PG-DSO-8-16_M (SOP, 8-Leads, Body 4.9x3.9mm, Pitch 1.27mm, IPC Low Density)
pins: 1 OUT (power) "Output", 2 GND (power) "Ground", 3 GND (power) "Ground", 4 NC "not connected", 5 NC "not connected", 6 GND (power) "Ground", 7 GND (power) "Ground", 8 IN (power) "Input"

## IFX4949SJ
designator U?
5 V Low Drop Out Linear Voltage Regulator, 5.5 to 28 V Operating, 100 mA, -40 to 125 degC, PG-DSO-8-16, Reel, Green; Manufacturer: Infineon; PartNumber: IFX4949SJ; Accuracy: 2.0 %; Automotive Qualified: FALSE; Dropout Voltage: 500 mV; Green: TRUE; Max Number Reflow: 3; Max Peak Reflow Temp: 260 degC; Max. Output Current: 100 mA; Output Voltage: 5 V; Regulator Type: Linear->single output; Typical Quiescent Current: 180 uA; DatasheetVersion: Rev. 1.0; PackageVersion: Mar-07; PackageReference: PG-DSO-8-16; PackageDescription: 8-Pin Plastic (Green) Dual Small Outline Package, 4.9 x 3.9 mm Body, 1.27 mm Pitch; Supplier 1: Mouser; Supplier Part Number 1: 726-IFX4949SJ; Supplier 2: Digi-Key; Supplier Part Number 2: IFX4949SJTR-ND; Supplier 3: Digi-Key; Supplier Part Number 3: IFX4949SJCT-ND; Supplier 4: Digi-Key; Supplier Part Number 4: IFX4949SJDKR-ND; Halogen-free: TRUE; MSL: 3; Packing: Reel; Reset: TRUE; Status Output: FALSE; Mounting Technology: Surface Mount; ComponentLink1Description: Manufacturer URL; ComponentLink1URL: http://www.infineon.com/; ComponentLink2Description: Datasheet; ComponentLink2URL: http://www.infineon.com/dgdl/IFX4949-Data-Sheet-10-Infineon.pdf?folderId=db3a304412b407950112b4182a3d24f8&fileId=db3a3043372d5cc801376eb6b31e3e14; ComponentLink3Description: Package Specification; ComponentLink3URL: http://www.infineon.com/dgdl/TLE7259-2GE_DS_rev12.pdf?folderId=db3a3043163797a6011666d32a0c0de1&fileId=db3a3043163797a6011666d4dbb80de2&location=en.Products.Automotive_ICs.Automotive_Transceivers.LIN_Transceivers.DATASHEET.TLE7259-2GE_DS_rev12.pdf
footprint INF-PG-DSO-8-16_N (SOP, 8-Leads, Body 4.9x3.9mm, Pitch 1.27mm, IPC Medium Density)
footprint INF-PG-DSO-8-16_L (SOP, 8-Leads, Body 4.9x3.9mm, Pitch 1.27mm, IPC High Density)
footprint INF-PG-DSO-8-16_M (SOP, 8-Leads, Body 4.9x3.9mm, Pitch 1.27mm, IPC Low Density)
pins: 1 IN (power) "Input; block to GND directly at the IC with a ceramic capacitor.", 2 SI (in) "Sense Input; if not needed connect to OUT", 3 PRE (out) "Preregulator Output;", 4 D (in) "Reset Delay; to select delay time, connect to GND via capacitor.", 5 GND (power) "Ground", 6 RO (oc) "Reset Output; open-collector output. Keep open, if not needed.", 7 SO (oc) "Sense Output; open-collector output. Keep open, if not needed.", 8 OUT (power) "5-V Output; connect to GND with a capacitor >= 4.7uF, ESR < 10 ohm."

## IFX7805ABTC
designator U?
Three Terminal 1.0 A Positive Voltage Regulator, 5 Vout, -40 to 125 degC, PG-TO263-3, Reel, Green; Manufacturer: Infineon; PartNumber: IFX7805ABTC; Automotive Qualified: FALSE; Dropout Voltage: 2000mV; Green: TRUE; Max. Output Current: 1000 mA; Operating Range: 7.5 to 35 V; Output Voltage: 5 V; Regulator Type: Linear; Typical Quiescent Current: 3500 uA; DatasheetVersion: Rev. 1.0; PackageVersion: Jan-10; PackageReference: PG-TO263-3-1; PackageDescription: 3-Pin Plastic (Green) Transistor Single Outline Package, 10 x 9.25 mm Body, 2.54 mm Pitch; Supplier 1: Mouser; Supplier Part Number 1: N/A; Halogen-free: TRUE; Packing: Reel; Reset: FALSE; Mounting Technology: Surface Mount; ComponentLink1Description: Manufacturer URL; ComponentLink1URL: http://www.infineon.com/; ComponentLink2Description: Datasheet; ComponentLink2URL: http://www.infineon.com/dgdl/IFX7805-Data-sheet-10.pdf?folderId=db3a30431ff988150120802bce1d257a&fileId=db3a3043405f2978014072cdd6f12257; ComponentLink3Description: Package Specification; ComponentLink3URL: http://www.infineon.com/cms/packages/SMD_-_Surface_Mounted_Devices/P-PG-TO263/P-TO263-03-01.html?__locale=en
footprint INF-PG-TO263-3-1_N (DPAK, 3-Leads, Body 10x9.25mm, Pitch 2.54mm, IPC Medium Density)
footprint INF-PG-TO263-3-1_L (DPAK, 3-Leads, Body 10x9.25mm, Pitch 2.54mm, IPC High Density)
footprint INF-PG-TO263-3-1_M (DPAK, 3-Leads, Body 10x9.25mm, Pitch 2.54mm, IPC Low Density)
pins: 1 IN (power) "Supply voltage / programming interface", 2 GND (power) "Ground", 3 OUT (power) "Output The output voltage supplies power to the load. For stability a minimum output capacitor of 100nF is required from output to ground. Please refer to the application information section for more details. “Application Information” on Page 13"

## IFX7805ABTF
designator U?
Three Terminal 1.0 A Positive Voltage Regulator, 5 Vout, -40 to 125 degC, PG-TO252-3, Reel, Green; Manufacturer: Infineon; PartNumber: IFX7805ABTF; Automotive Qualified: FALSE; Dropout Voltage: 2000mV; Green: TRUE; Max. Output Current: 1000 mA; Operating Range: 7.5 to 35 V; Output Voltage: 5 V; Regulator Type: Linear; Typical Quiescent Current: 3500 uA; DatasheetVersion: Rev. 1.0; PackageVersion: Jan-10; PackageReference: PG-TO252-3-1; PackageDescription: 3-Pin Plastic (Green) Transistor Single Outline Package, 6.5 x 6.12 mm Body, 2.28 mm Pitch; Supplier 1: Mouser; Supplier Part Number 1: N/A; Halogen-free: TRUE; Packing: Reel; Reset: FALSE; Mounting Technology: Surface Mount; ComponentLink1Description: Manufacturer URL; ComponentLink1URL: http://www.infineon.com/; ComponentLink2Description: Datasheet; ComponentLink2URL: http://www.infineon.com/dgdl/IFX7805-Data-sheet-10.pdf?folderId=db3a30431ff988150120802bce1d257a&fileId=db3a3043405f2978014072cdd6f12257; ComponentLink3Description: Package Specification; ComponentLink3URL: http://www.infineon.com/cms/packages/SMD_-_Surface_Mounted_Devices/P-PG-TO252/P-PG-TO252-03-001.html?__locale=en
footprint INF-PG-TO252-3-1_N (DPAK, 3-Leads, Body 6.525x6.12mm, Pitch 2.28mm, IPC Medium Density)
footprint INF-PG-TO252-3-1_L (DPAK, 3-Leads, Body 6.525x6.12mm, Pitch 2.28mm, IPC High Density)
footprint INF-PG-TO252-3-1_M (DPAK, 3-Leads, Body 6.525x6.12mm, Pitch 2.28mm, IPC Low Density)
pins: 1 IN (power) "Supply voltage / programming interface", 2 GND (power) "Ground", 3 OUT (power) "Output The output voltage supplies power to the load. For stability a minimum output capacitor of 100nF is required from output to ground. Please refer to the application information section for more details. “Application Information” on Page 13"

## IFX7805ABTS
designator U?
Three Terminal 1.0 A Positive Voltage Regulator, 5 Vout, -40 to 125 degC, PG-TO-220-3, Tube, Green; Manufacturer: Infineon; PartNumber: IFX7805ABTS; Automotive Qualified: FALSE; Dropout Voltage: 2000 mV; Green: TRUE; Max. Output Current: 1000 mA; Operating Range: 7.5 to 35 V; Output Voltage: 5 V; Regulator Type: Linear; Typical Quiescent Current: 3500 uA; DatasheetVersion: Rev. 1.0; PackageReference: PG-TO-220-3; PackageDescription: 3-Pin Plastic (Green) Transistor Single Outline Package, 10 x 4.4 mm Body, 2.54 mm Pitch; Supplier 1: Mouser; Supplier Part Number 1: N/A; Halogen-free: TRUE; Packing: Tube; Reset: FALSE; Mounting Technology: Through Hole; ComponentLink1Description: Manufacturer URL; ComponentLink1URL: http://www.infineon.com/; ComponentLink2Description: Datasheet; ComponentLink2URL: http://www.infineon.com/dgdl/IFX7805-Data-sheet-10.pdf?folderId=db3a30431ff988150120802bce1d257a&fileId=db3a3043405f2978014072cdd6f12257; ComponentLink3Description: Package Specification; ComponentLink3URL: http://www.infineon.com/cms/packages/Leaded_and_through-hole/P-PG-TO220/P-PG-TO220-3-001.html?__locale=en
footprint INF-PG-TO-220-3 (FM, 3-Leads, Body 10.2x4.4mm, Pitch 2.54mm)
pins: 1 IN (power) "Supply voltage / programming interface", 2 GND (power) "Ground", 3 OUT (power) "Output The output voltage supplies power to the load. For stability a minimum output capacitor of 100nF is required from output to ground. Please refer to the application information section for more details. “Application Information” on Page 13"